# Altium schematic symbol library Switch.SchLib: 9 symbols
Pins are listed as number, name and electrical type; pins without a type are passive.

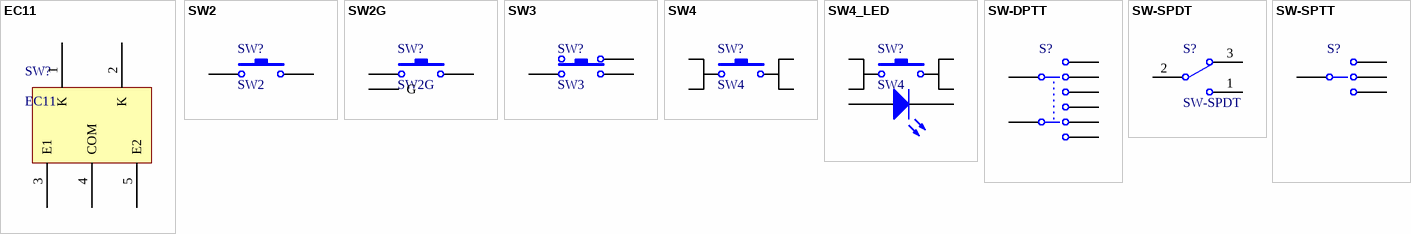
[diagram p0: symbols EC11 to SW-SPTT]

## EC11
designator SW?
5Pin Encoder
footprint ENCODER_KEY
pins: 1 K, 2 K, 3 E1, 4 COM, 5 E2

## SW2
designator SW?
Switch
footprint SW-SMD1
pins: 1, 2

## SW2G
designator SW?
Switch
footprint SW-SMD_TS24CA
footprint SW-SMD_K2-1112SA-AXXW-XX (C128949)
pins: 1, 2, 3 G

## SW3
designator SW?
Switch
footprint SSAL220100
pins: 2, 2, 3

## SW4
designator SW?
Switch
footprint SW-6X6X2.5
footprint SW-0606
footprint SW-1212
footprint SW-SMD2
footprint SW-SMD_4P-L5.2-W5.2-P3.70-LS6.4 (C388295)
pins: 1, 2, 3, 4

## SW4_LED
designator SW?, comment SW4
Switch with LED
footprint SW-1212-LED
pins: 1, 2, 3, 4, 5 A, 6 K

## SW-DPTT
designator S?
Double-Pole, Triple-Throw Switch; Published: 24-Mar-1999; LatestRevisionDate: 17-Jul-2002; LatestRevisionNote: Re-released for DXP Platform.; PackageReference: DPDT-6; Publisher: Altium Limited; PackageDescription: Switch; 6 Leads
footprint SSSS820501
pins: 1, 2, 3, 4, 5, 6, 7, 8

## SW-SPDT
designator S?
SPDT Subminiature Toggle Switch, Right Angle Mounting, Vertical Actuation
footprint SS-12F44
footprint SS-12D07G3
pins: 1, 2, 3

## SW-SPTT
designator S?
Single-Pole, Triple-Throw Switch; Published: 24-Mar-1999; LatestRevisionDate: 17-Jul-2002; LatestRevisionNote: Re-released for DXP Platform.; PackageReference: DPDT-6; Publisher: Altium Limited; PackageDescription: Switch; 6 Leads
footprint SSAH120100
pins: 1, 2, 3, 4